# Altium footprint library Inproject.PcbLib: 19 footprints (part 1 of 2)
Each footprint in its own frame and in the unit in brackets; x right, y up, seen from the top. Pads: shape width x height; smd on the part's side, far side on the other; paste and mask are expansions set on the pad; w line width, h text height; cw(c..) or ccw(c..) is an arc to the next point about the centre after c.
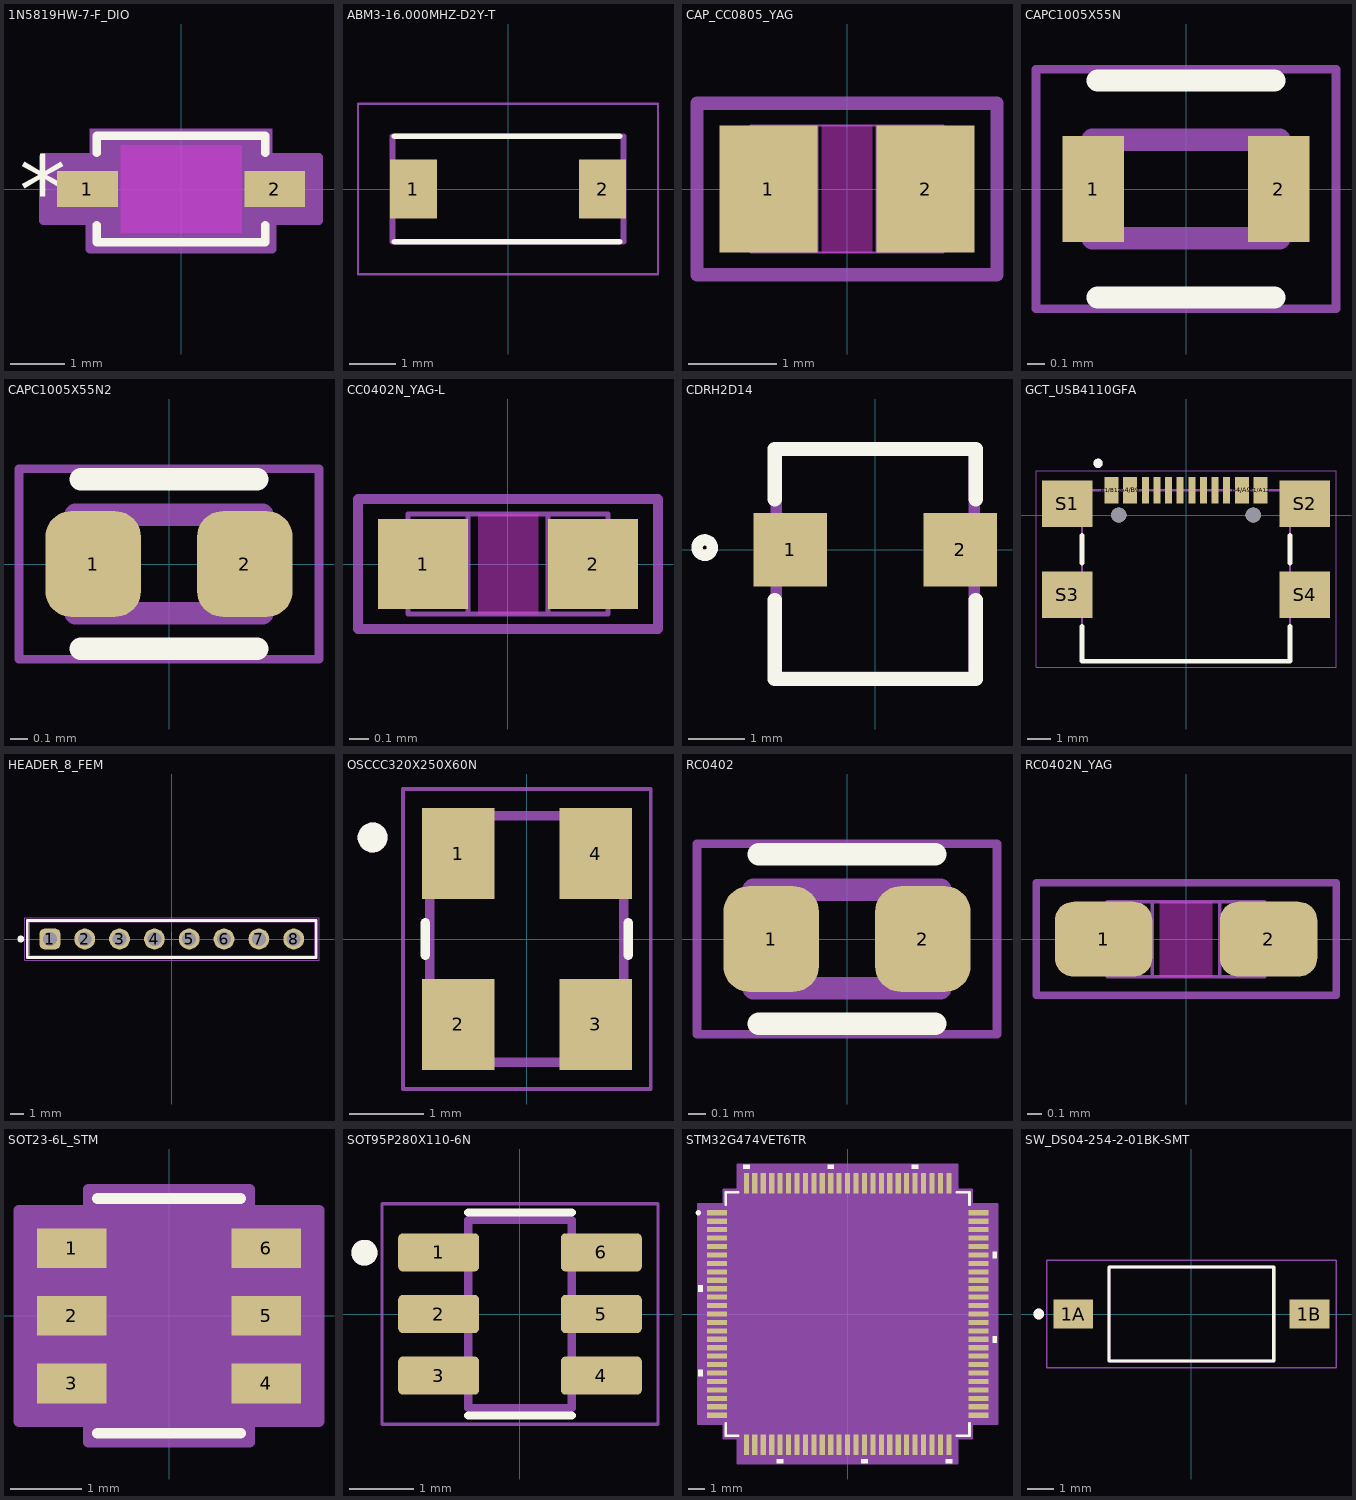
[diagram p0: the footprints below, top view; thin cyan lines are the x and y axes]

## 1N5819HW-7-F_DIO [mil]
pads (2):
  rect 44x26 smd paste+0 mask+0: 1(-67.79,0) 2(67.79,0)
Top Overlay:
  lines w6: -61,-26.1 -61,-38.5 61,-38.5 61,-26.1 ; -61,26.1 -61,38.5 61,38.5 61,26.1
  text "*" at -117.29,-25 h50
Keep-Out Layer:
  region: -43.79,-31.5 -43.79,31.5 43.79,31.5 43.79,-31.5
Mechanical 13:
  lines w1: -56,-16.75 -39.25,-33.5 ; -56,16.75 -39.25,33.5 ; -75.79,-12 -56,-12 -56,12 -75.79,12 -75.79,-12 ; -56,-33.5 -56,33.5 56,33.5 56,-33.5 -56,-33.5 ; 56,-12 75.79,-12 75.79,12 56,12 56,-12
  text "*" at -58.5,-25 h50
Mechanical 15:
  region: -66,-23 -99.79,-23 -99.79,23 -66,23 -66,43.5 66,43.5 66,23 99.79,23 99.79,-23 66,-23 66,-43.5 -66,-43.5
  lines w6: -66,23 -99.79,23 -99.79,-23 -66,-23 -66,-43.5 66,-43.5 66,-23 99.79,-23 99.79,23 66,23
3D body "1N5819HW-7-F_DIO.step": height 53.11, standoff 0, extent -75.79,-33.5 75.79,33.5

## ABM3-16.000MHZ-D2Y-T [mm]
pads (2):
  rect 1.016x1.27 smd: 1(-2.05,0) 2(2.05,0)
Top Overlay:
  lines w0.127: -2.46,-1.143 2.413,-1.143 ; -2.46,1.143 2.413,1.143
Mechanical 13:
  lines w0.127: -2.5,-1.143 2.5,-1.143 2.5,1.143 -2.5,1.143 -2.5,-1.143
Mechanical 15:
  lines w0.05: -3.25,-1.85 3.25,-1.85 3.25,1.85 -3.25,1.85 -3.25,-1.85
3D body "step_temp.STEP": height 0.89, standoff 0, extent -1.6,-0.749 1.6,0.749

## CAP_CC0805_YAG [mil]
pads (2):
  rect 44x57 smd paste+0 mask+0: 1(-35.31,0) 2(35.31,0)
Top Layer keep-out:
  region: -11.31,-26.5 -11.31,26.5 11.31,26.5 11.31,-26.5
Keep-Out Layer:
  region: -11.31,-28.5 -11.31,28.5 11.31,28.5 11.31,-28.5
Mechanical 13:
  lines w1: -43.31,-28.5 -43.31,28.5 ; -43.31,-28.5 43.31,-28.5 ; -43.31,-28.5 -13.31,-28.5 -13.31,28.5 -43.31,28.5 ; -43.31,-28.5 -43.31,28.5 ; -43.31,28.5 43.31,28.5 ; 43.31,-28.5 43.31,28.5 ; 43.31,-28.5 43.31,28.5 ; 43.31,-28.5 13.31,-28.5 13.31,28.5 43.31,28.5
Mechanical 15:
  lines w6: -67.31,-38.5 67.31,-38.5 67.31,38.5 -67.31,38.5 -67.31,-38.5
3D body "CAP_CC0805_YAG.step": height 57.01, standoff 0, extent -43.31,-28.5 43.31,28.5

## CAPC1005X55N [mm]
pads (2):
  rect 0.35x0.6 smd: 1(-0.525,0) 2(0.525,0)
Top Overlay:
  lines w0.127: -0.5,-0.615 0.5,-0.615 ; -0.5,0.615 0.5,0.615
Mechanical 13:
  lines w0.127: -0.53,-0.28 -0.53,0.28 0.53,0.28 0.53,-0.28 -0.53,-0.28
Mechanical 15:
  lines w0.05: -0.85,-0.679 -0.85,0.679 0.85,0.679 0.85,-0.679 -0.85,-0.679
3D body "YAG_CC0402_YAG.step": height 0.56, standoff 0, extent -0.521,-0.279 0.521,0.279

## CAPC1005X55N2 [mm]
pads (2):
  rrect53% 0.54x0.6 smd: 1(-0.43,0) 2(0.43,0)
Top Overlay:
  lines w0.127: -0.5,-0.48 0.5,-0.48 ; -0.5,0.48 0.5,0.48
Mechanical 13:
  lines w0.127: -0.53,-0.28 0.53,-0.28 0.53,0.28 -0.53,0.28 -0.53,-0.28
Mechanical 15:
  lines w0.05: -0.85,-0.54 0.85,-0.54 0.85,0.54 -0.85,0.54 -0.85,-0.54
3D body "YAG_CC0402_YAG.step": height 0.56, standoff 0, extent -0.521,-0.279 0.521,0.279

## CC0402N_YAG-L [mil]
pads (2):
  rect 18x18 smd paste+0 mask+0: 1(-17,0.03) 2(17,0.03)
Top Layer keep-out:
  region: -6,-7.97 -6,8.03 6,8.03 6,-7.97
Keep-Out Layer:
  region: -6,-9.97 -6,10.03 6,10.03 6,-9.97
Mechanical 13:
  lines w1: -20,-9.97 -20,10.03 ; -20,-9.97 20,-9.97 ; -20,-9.97 -8,-9.97 -8,10.03 -20,10.03 ; -20,-9.97 -20,10.03 ; -20,10.03 20,10.03 ; 20,-9.97 20,10.03 ; 20,-9.97 20,10.03 ; 20,-9.97 8,-9.97 8,10.03 20,10.03
Mechanical 15:
  lines w2: -30,-12.97 30,-12.97 30,13.03 -30,13.03 -30,-12.97
3D body "CC0402N_YAG.step": height 27.99, standoff 0, extent -20,-9.97 20,10.03

## CDRH2D14 [mm]
pads (2):
  rect 1.3x1.3 smd: 1(-1.5,0) 2(1.5,0)
Top Overlay:
  circle w0.2: c-3.012,0.036 r0.136
  lines w0.254: -1.778,-0.889 -1.778,-2.286 1.778,-2.286 1.778,-0.889 ; -1.778,0.889 -1.778,1.778 1.778,1.778 1.778,0.889
Mechanical 3:
  lines w0.2: -1.75,-2.25 -1.75,1.75 1.75,1.75 1.75,-2.25 -1.75,-2.25
Mechanical 7:
  lines w0.2: -1.75,-0.891 -1.75,-2.25 1.75,-2.25 1.75,-0.904 ; -1.75,0.9 -1.75,1.75 1.75,1.75 1.75,0.875
3D body "CDRH2D14NP-2R2NC.stp": height 1.55, standoff 0, extent -1.78,-2.122 1.78,1.423

## GCT_USB4110GFA [mm]
pads (18):
  rect 0.6x1.15 smd: A1/B12(-3.2,1.075) A4/B9(-2.4,1.075) B1/A12(3.2,1.075) B4/A9(2.4,1.075)
  rect 0.3x1.15 smd: A5(-1.25,1.075) A6(-0.25,1.075) A7(0.25,1.075) A8(1.25,1.075) B5(1.75,1.075) B6(0.75,1.075) B7(-0.75,1.075) B8(-1.75,1.075)
  rect 2.18x2 smd: S1(-5.11,0.5) S2(5.11,0.5) S3(-5.11,-3.43) S4(5.11,-3.43)
  round 0.65 hole 0.65 unplated: ""(-2.89,0) ""(2.89,0)
Top Overlay:
  circle w0.2: c-3.78,2.23 r0.1
  lines w0.2: -4.47,-4.79 -4.47,-6.28 4.47,-6.28 4.47,-4.79 ; -4.47,-2.07 -4.47,-0.86 ; 4.47,-2.07 4.47,-0.86
Mechanical 13:
  circle w0.2: c-3.78,2.23 r0.1
  lines w0.1: -4.47,-6.28 -4.47,1.07 4.47,1.07 4.47,-6.28 -4.47,-6.28
Mechanical 15:
  lines w0.05: -6.45,-6.53 6.45,-6.53 6.45,1.9 -6.45,1.9 -6.45,-6.53
3D body "step_temp.STEP": height 3.26, standoff -0.63, extent -5.65,-6.28 5.65,1.42

## HEADER_8_FEM [mm]
pads (8):
  rrect50% 1.52x1.52 hole 1.02: 1(-8.89,0)
  round 1.52 hole 1.02: 2(-6.35,0) 3(-3.81,0) 4(-1.27,0) 5(1.27,0) 6(3.81,0) 7(6.35,0) 8(8.89,0)
Top Overlay:
  circle w0.25: c-11.02,0 r0.125
  lines w0.2: -10.535,-1.35 -10.535,1.35 10.535,1.35 10.535,-1.35 -10.535,-1.35
Bottom Designator:
  text ".Designator" at -7.498,-0.5 h1.5
Top Courtyard:
  lines w0.05: -10.735,-1.55 -10.735,1.55 10.735,1.55 10.735,-1.55 -10.735,-1.55
Top Component Outline:
  lines w0.1: -10.41,-1.25 -10.41,1.25 10.41,1.25 10.41,-1.25 -10.41,-1.25
Top Component Center:
  lines w0.05: -0.5,0 0.5,0 ; 0,-0.5 0,0.5
3D body "61300811821.stp": height 8.55, standoff -3.06, extent -10.41,-1.25 10.41,1.25

## OSCCC320X250X60N [mm]
pads (4):
  rect 0.97x1.22 smd: 1(-0.92,1.145) 2(-0.92,-1.145) 3(0.92,-1.145) 4(0.92,1.145)
Top Overlay:
  circle w0.2: c-2.068,1.361 r0.1
  lines w0.127: -1.36,-0.22 -1.36,0.22 ; 1.36,-0.22 1.36,0.22
Mechanical 13:
  circle w0.2: c-2.068,1.361 r0.1
  lines w0.127: -1.3,-1.65 1.3,-1.65 1.3,1.65 -1.3,1.65 -1.3,-1.65
Mechanical 15:
  lines w0.05: -1.66,-2.01 1.66,-2.01 1.66,2.01 -1.66,2.01 -1.66,-2.01
3D body "3225 SMD Crystal Oscillator.STEP": height 0.65, standoff -0.05, extent -1.25,-1.6 1.25,1.6

## RC0402 [mm]
pads (2):
  rrect53% 0.54x0.6 smd: 1(-0.43,0) 2(0.43,0)
Top Overlay:
  lines w0.127: -0.5,-0.48 0.5,-0.48 ; -0.5,0.48 0.5,0.48
Mechanical 13:
  lines w0.127: -0.53,-0.28 -0.53,0.28 0.53,0.28 0.53,-0.28 -0.53,-0.28
Mechanical 15:
  lines w0.05: -0.85,-0.54 -0.85,0.54 0.85,0.54 0.85,-0.54 -0.85,-0.54
3D body "YAG_CC0402_YAG.step": height 0.56, standoff 0, extent -0.521,-0.279 0.521,0.279

## RC0402N_YAG [mil]
pads (2):
  rrect50% 26x20 smd paste+0 mask+0: 1(-21.99,-0.05) 2(22.01,-0.05)
Top Layer keep-out:
  region: -6.99,-8.05 -6.99,7.95 7.01,7.95 7.01,-8.05
Keep-Out Layer:
  region: -6.99,-10.05 -6.99,9.95 7.01,9.95 7.01,-10.05
Mechanical 13:
  lines w1: -20.99,-10.05 -20.99,9.95 ; -20.99,-10.05 -8.99,-10.05 -8.99,9.95 -20.99,9.95 ; -20.99,-10.05 21.01,-10.05 ; -20.99,-10.05 -20.99,9.95 ; -20.99,9.95 21.01,9.95 ; 21.01,-10.05 9.01,-10.05 9.01,9.95 21.01,9.95 ; 21.01,-10.05 21.01,9.95 ; 21.01,-10.05 21.01,9.95
Mechanical 15:
  lines w2: -40,-15 -40,15 40,15 40,-15 -40,-15
3D body "RC0402N_YAG.step": height 27.99, standoff 0, extent -20.97,-10.05 20.99,9.95

## SOT23-6L_STM [mil]
pads (6):
  rect 38.5x22 smd paste+0 mask+0: 1(-53.75,37.4) 2(-53.75,0) 3(-53.75,-37.4) 4(53.75,-37.4) 5(53.75,0) 6(53.75,37.4)
Top Overlay:
  lines w6: -39.5,-65 39.5,-65 ; -39.5,65 39.5,65
  text "." at -65,65 h50
Mechanical 13:
  lines w0: -12,60 ccw(c0,60) 12,60
  lines w1: -59,-47.4 -34.5,-47.4 -34.5,-27.4 -59,-27.4 -59,-47.4 ; -59,-10 -34.5,-10 -34.5,10 -59,10 -59,-10 ; -59,27.4 -34.5,27.4 -34.5,47.4 -59,47.4 -59,27.4 ; -34.5,-60 -34.5,60 34.5,60 34.5,-60 -34.5,-60 ; 34.5,-47.4 59,-47.4 59,-27.4 34.5,-27.4 34.5,-47.4 ; 34.5,-10 59,-10 59,10 34.5,10 34.5,-10 ; 34.5,27.4 59,27.4 59,47.4 34.5,47.4 34.5,27.4
  text "*" at -32,7 h50
Mechanical 15:
  region: -44.5,-58.4 -83,-58.4 -83,58.4 -44.5,58.4 -44.5,70 44.5,70 44.5,58.4 83,58.4 83,-58.4 44.5,-58.4 44.5,-70 -44.5,-70
  lines w6: -83,-58.4 -44.5,-58.4 -44.5,-70 44.5,-70 44.5,-58.4 83,-58.4 83,58.4 44.5,58.4 44.5,70 -44.5,70 -44.5,58.4 -83,58.4 -83,-58.4
3D body "SOT23-6L_STM.step": height 57.09, standoff 0, extent -59.02,-60 59.02,60

## SOT95P280X110-6N [mm]
pads (6):
  rrect25% 1.25x0.59 smd: 1(-1.255,0.95) 2(-1.255,0) 3(-1.255,-0.95) 4(1.255,-0.95) 5(1.255,0) 6(1.255,0.95)
Top Overlay:
  circle w0.2: c-2.4,0.946 r0.1
  lines w0.127: -0.8,-1.565 0.8,-1.565 ; -0.8,1.565 0.8,1.565
Mechanical 13:
  circle w0.2: c-2.4,0.946 r0.1
  lines w0.127: -0.8,-1.45 -0.8,1.45 0.8,1.45 0.8,-1.45 -0.8,-1.45
Mechanical 15:
  lines w0.05: -2.13,-1.7 -2.13,1.7 2.13,1.7 2.13,-1.7 -2.13,-1.7
3D body "step_temp.STEP": height 1.1, standoff 0, extent -1.4,-1.45 1.4,1.45

## STM32G474VET6TR [mil]
pads (100):
  rect 47x12 smd paste+0 mask+0: 1(-305.12,236.22) 2(-305.12,216.54) 3(-305.12,196.85) 4(-305.12,177.17) 5(-305.12,157.48) 6(-305.12,137.8) 7(-305.12,118.11) 8(-305.12,98.43) 9(-305.12,78.74) 10(-305.12,59.06) 11(-305.12,39.37) 12(-305.12,19.69) 13(-305.12,0) 14(-305.12,-19.68) 15(-305.12,-39.37) 16(-305.12,-59.06) 17(-305.12,-78.74) 18(-305.12,-98.43) 19(-305.12,-118.11) 20(-305.12,-137.8) 21(-305.12,-157.48) 22(-305.12,-177.17) 23(-305.12,-196.85) 24(-305.12,-216.54) 25(-305.12,-236.22) 51(305.12,-236.22) 52(305.12,-216.54) 53(305.12,-196.85) 54(305.12,-177.17) 55(305.12,-157.48) 56(305.12,-137.8) 57(305.12,-118.11) 58(305.12,-98.43) 59(305.12,-78.74) 60(305.12,-59.06) 61(305.12,-39.37) 62(305.12,-19.68) 63(305.12,0) 64(305.12,19.68) 65(305.12,39.37) 66(305.12,59.06) 67(305.12,78.74) 68(305.12,98.43) 69(305.12,118.11) 70(305.12,137.8) 71(305.12,157.48) 72(305.12,177.17) 73(305.12,196.85) 74(305.12,216.54) 75(305.12,236.22)
  rect 12x47 smd paste+0 mask+0: 26(-236.22,-305.12) 27(-216.54,-305.12) 28(-196.85,-305.12) 29(-177.17,-305.12) 30(-157.48,-305.12) 31(-137.8,-305.12) 32(-118.11,-305.12) 33(-98.43,-305.12) 34(-78.74,-305.12) 35(-59.06,-305.12) 36(-39.37,-305.12) 37(-19.68,-305.12) 38(0,-305.12) 39(19.68,-305.12) 40(39.37,-305.12) 41(59.06,-305.12) 42(78.74,-305.12) 43(98.43,-305.12) 44(118.11,-305.12) 45(137.8,-305.12) 46(157.48,-305.12) 47(177.17,-305.12) 48(196.85,-305.12) 49(216.54,-305.12) 50(236.22,-305.12) 76(236.22,305.12) 77(216.54,305.12) 78(196.85,305.12) 79(177.17,305.12) 80(157.48,305.12) 81(137.8,305.12) 82(118.11,305.12) 83(98.43,305.12) 84(78.74,305.12) 85(59.06,305.12) 86(39.37,305.12) 87(19.68,305.12) 88(0,305.12) 89(-19.68,305.12) 90(-39.37,305.12) 91(-59.06,305.12) 92(-78.74,305.12) 93(-98.43,305.12) 94(-118.11,305.12) 95(-137.8,305.12) 96(-157.48,305.12) 97(-177.17,305.12) 98(-196.85,305.12) 99(-216.54,305.12) 100(-236.22,305.12)
Top Overlay:
  circle w6: c-348.46,236.22 r3
  region: -228.72,338.62 -243.72,338.62 -243.72,348.62 -228.72,348.62
  region: -31.87,338.62 -46.87,338.62 -46.87,348.62 -31.87,348.62
  region: 164.98,338.62 149.98,338.62 149.98,348.62 164.98,348.62
  region: 338.62,145.3 348.62,145.3 348.62,130.3 338.62,130.3
  region: 338.62,-51.56 348.62,-51.56 348.62,-66.56 338.62,-66.56
  region: 243.72,-338.62 228.72,-338.62 228.72,-348.62 243.72,-348.62
  region: 46.87,-338.62 31.87,-338.62 31.87,-348.62 46.87,-348.62
  region: -149.98,-338.62 -164.98,-338.62 -164.98,-348.62 -149.98,-348.62
  region: -338.62,-130.3 -348.62,-130.3 -348.62,-145.3 -338.62,-145.3
  region: -338.62,66.56 -348.62,66.56 -348.62,51.56 -338.62,51.56
  lines w6: -284.5,-255.32 -284.5,-284.5 -255.32,-284.5 ; -284.5,255.32 -284.5,284.5 -255.32,284.5 ; 255.32,-284.5 284.5,-284.5 284.5,-255.32 ; 255.32,284.5 284.5,284.5 284.5,255.32
Mechanical 13:
  circle w0: c-256.62,236.22 r3
  lines w1: -279.5,229.5 -229.5,279.5 ; -279.5,-279.5 -279.5,279.5 279.5,279.5 279.5,-279.5 -279.5,-279.5
Mechanical 15:
  region: -256.22,-289.5 -289.5,-289.5 -289.5,-256.22 -348.62,-256.22 -348.62,256.22 -289.5,256.22 -289.5,289.5 -256.22,289.5 -256.22,348.62 256.22,348.62 256.22,289.5 289.5,289.5 289.5,256.22 348.62,256.22 348.62,-256.22 289.5,-256.22 289.5,-289.5 256.22,-289.5 256.22,-348.62 -256.22,-348.62
  lines w6: -348.62,-256.22 -348.62,256.22 -289.5,256.22 -289.5,289.5 -256.22,289.5 -256.22,348.62 256.22,348.62 256.22,289.5 289.5,289.5 289.5,256.22 348.62,256.22 348.62,-256.22 289.5,-256.22 289.5,-289.5 256.22,-289.5 256.22,-348.62 -256.22,-348.62 -256.22,-289.5 -289.5,-289.5 -289.5,-256.22 -348.62,-256.22
3D body "LQFP100-14x14mm.step": height 63.11, standoff 0, extent -314.84,-314.84 314.84,314.84

## SW_DS04-254-2-01BK-SMT [mm]
pads (2):
  rect 1.5x1.1 smd: 1A(-4.45,0) 1B(4.45,0)
Top Overlay:
  circle w0.2: c-5.75,0 r0.1
  lines w0.127: -3.1,-1.77 -3.1,1.77 3.1,1.77 3.1,-1.77 -3.1,-1.77
Mechanical 13:
  circle w0.2: c-5.75,0 r0.1
  lines w0.127: -3.1,-1.77 -3.1,1.77 3.1,1.77 3.1,-1.77 -3.1,-1.77
Mechanical 15:
  lines w0.05: -5.45,-2.02 5.45,-2.02 5.45,2.02 -5.45,2.02 -5.45,-2.02
3D body "Same_Sky_DS04-254-2-01BK-SMT.step": height 3.98, standoff -0.02, extent -4.947,-1.762 4.953,1.778